# Altium footprint library Polyfuse.PcbLib: 1 footprints
Each footprint in its own frame and in the unit in brackets; x right, y up, seen from the top. Pads: shape width x height; smd on the part's side, far side on the other; paste and mask are expansions set on the pad; w line width, h text height; cw(c..) or ccw(c..) is an arc to the next point about the centre after c.
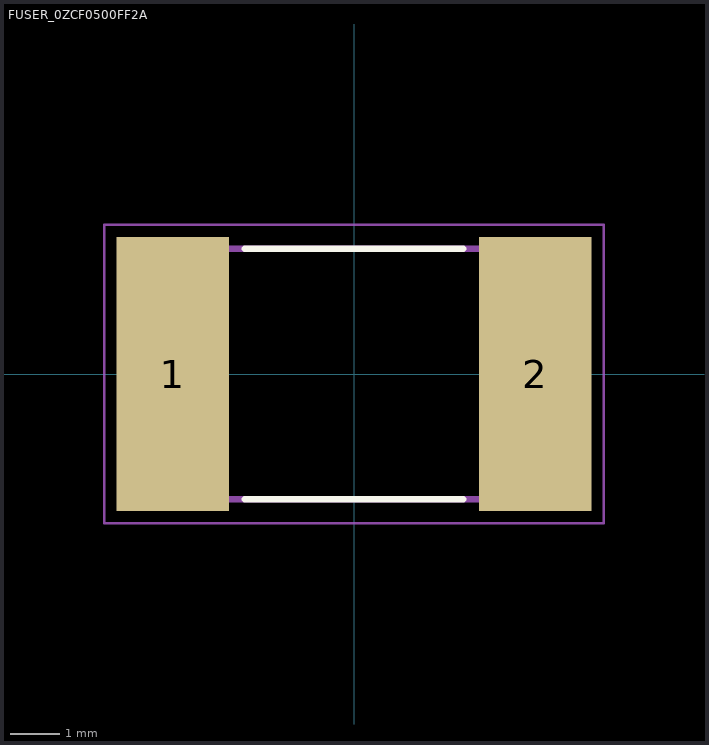
[diagram p0: the footprint, top view; thin cyan lines are the x and y axes]

## FUSER_0ZCF0500FF2A [mm]
pads (2):
  rect 2.3x5.6 smd paste+0 mask+0.102: 1(-3.7,0) 2(3.7,0)
Top Overlay:
  lines w0.127: -2.23,-2.56 2.23,-2.56 ; -2.23,2.56 2.23,2.56
Assembly Top:
  lines w0.127: -3.678,-2.56 -3.678,2.56 3.678,2.56 3.678,-2.56 -3.678,-2.56
Courtyard Top:
  lines w0.05: -5.1,-3.05 5.1,-3.05 5.1,3.05 -5.1,3.05 -5.1,-3.05